# EAGLE library part IC74HC197 (library chuong)
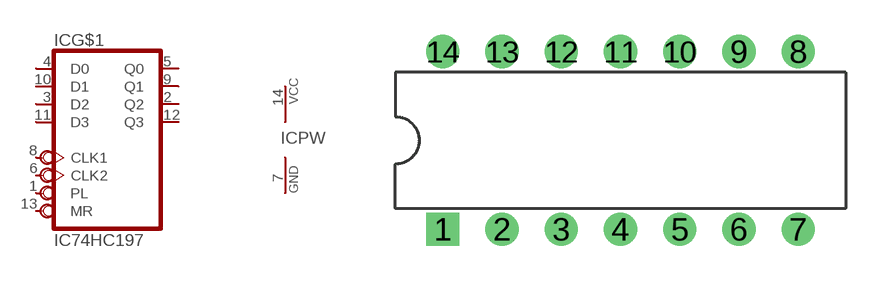
[diagram p81: symbol with the pads of DIL-14; footprint DIL-14]

Designator prefix IC; gates G$1=IC74HC197 PW=POWER

## IC74HC197  [DIL-14]
1  G$1:PL  in
2  G$1:Q2  out
3  G$1:D2  in
4  G$1:D0  in
5  G$1:Q0  out
6  G$1:CLK2
7  PW:GND  pwr
8  G$1:CLK1
9  G$1:Q1  out
10  G$1:D1  in
11  G$1:D3  in
12  G$1:Q3  out
13  G$1:MR  in
14  PW:VCC  pwr

## Footprint DIL-14 (pad centres in mm)
drill 0.61 pad 1.422 square: 1 -7.62,-3.81
drill 0.61 pad 1.422 round: 2 -5.08,-3.81; 3 -2.54,-3.81; 4 0,-3.81; 5 2.54,-3.81; 6 5.08,-3.81; 7 7.62,-3.81; 8 7.62,3.81; 9 5.08,3.81; 10 2.54,3.81; 11 0,3.81; 12 -2.54,3.81; 13 -5.08,3.81; 14 -7.62,3.81